# Altium footprint library libreriaPcb.PcbLib: 683 footprints (part 13 of 44)
Each footprint in its own frame and in the unit in brackets; x right, y up, seen from the top. Pads: shape width x height; smd on the part's side, far side on the other; paste and mask are expansions set on the pad; w line width, h text height; cw(c..) or ccw(c..) is an arc to the next point about the centre after c.
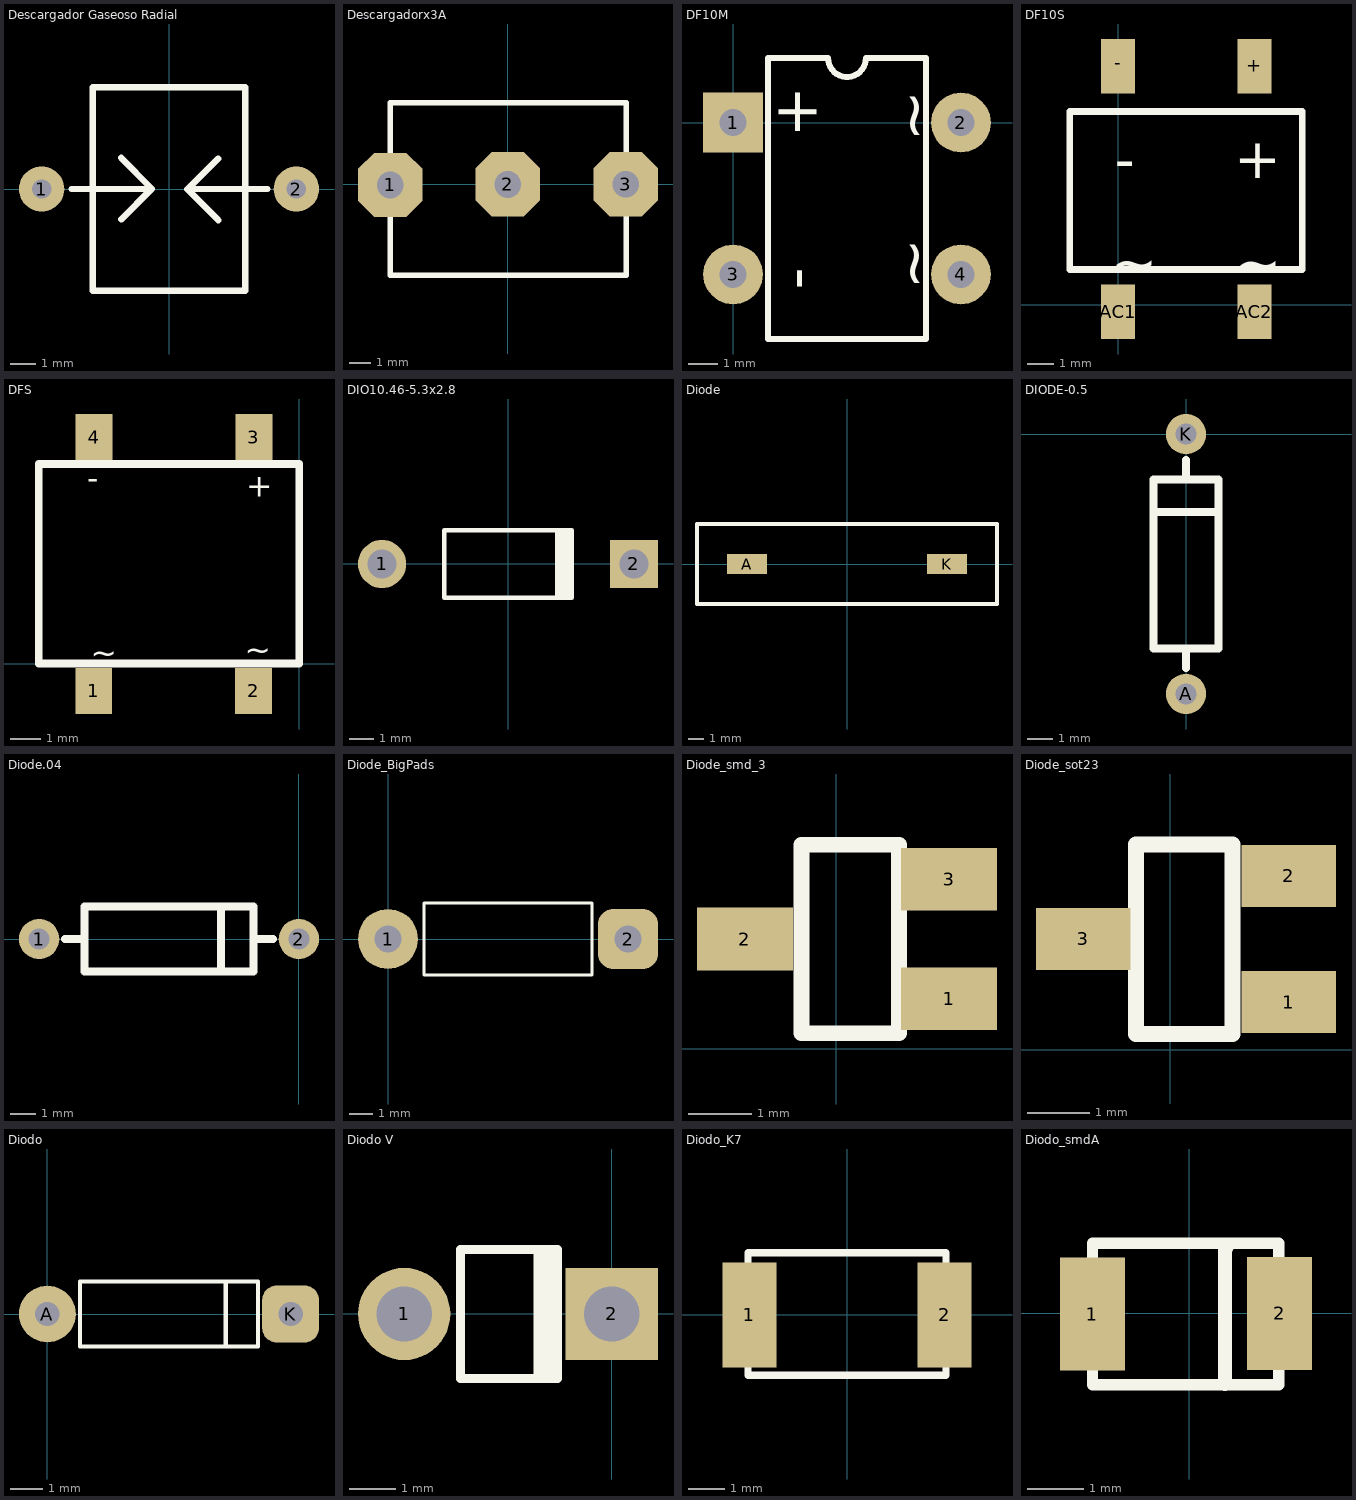
[diagram p12: the footprints below, top view; thin cyan lines are the x and y axes]

## Descargador Gaseoso Radial [mil]
pads (2):
  round 70 / inner round 0 / far side round 70 hole 30 paste+0: 1(-196.85,0) 2(196.85,0)
Top Overlay:
  lines w10: -150,0 -27,0 ; -74,-47 -27,0 ; -74,48 -26.5,0.5 -27,0 ; 76,-48 28.5,-0.5 29,0 ; 76,47 29,0 ; 152,0 29,0 ; -118.11,-157.48 -118.11,157.48 118.11,157.48 118.11,-157.48 -118.11,-157.48
3D body: height 353.09, standoff 39.37, extent -120.11,-160.34 116.11,154

## Descargadorx3A [mm]
pads (3):
  oct 3x3 hole 1.25: 1(-5.475,-0.025) 2(0,0) 3(5.5,0.013)
Top Overlay:
  lines w0.254: -5.475,-4.237 -5.475,3.813 5.525,3.813 5.525,-4.237 -5.475,-4.237
3D body: height 8.2, standoff 0, extent -5.975,-4.285 -4.975,3.912
3D body: height 8.2, standoff 0, extent 5.025,-4.325 6.025,3.873
3D body: height 8.2, standoff 0, extent -0.525,-4.325 0.475,3.873
3D body: height 6, standoff 0, extent 4.508,-0.985 6.5,1.011
3D body: height 8, standoff 0, extent -5.55,-4.235 5.45,3.762
3D body: height 6, standoff 0, extent -6.467,-1.023 -4.475,0.973
3D body: height 6, standoff 0, extent -0.992,-0.998 1,0.998

## DF10M [mm]
pads (4):
  rect 2x2 hole 0.9: 1(0,0)
  round 2 hole 0.9: 2(7.62,0) 3(0,-5.08) 4(7.62,-5.08)
Top Overlay:
  lines w0.2: 1.16,-7.24 1.16,2.16 3.175,2.16 ccw(c3.81,2.16) 4.445,2.16 6.46,2.16 6.46,-7.24 1.16,-7.24
  text "~" at 6.731,-0.635 h1.5
  text "~" at 6.731,-5.588 h1.5
  text "-" at 2.794,-5.588 h1.5
  text "+" at 2.794,-0.508 h1.5

## DF10S [mil]
pads (4):
  rect 50x80 smd: +(200,350) -(0,350) AC1(0,-10) AC2(200,-10)
Top Overlay:
  lines w10: -70.87,283.46 -70.87,52.17 270,52.17 270,283.46 -70,283.46
  text "~" at -10.83,32.48 h60
  text "~" at 171.26,31.5 h60
  text "-" at -4.92,184.06 h60
  text "+" at 170.28,186.02 h60

## DFS [mm]
pads (4):
  rect 1.2x1.5 smd: 1(-6.685,-0.89) 2(-1.485,-0.89) 3(-1.475,7.375) 4(-6.675,7.375)
Top Overlay:
  lines w0.254: -8.475,0 0,0 0,6.496 -8.475,6.496 -8.475,0
  text "~" at -1.775,0.1 h0.75
  text "~" at -6.785,0 h0.75
  text "-" at -6.9,5.675 h0.75
  text "+" at -1.725,5.425 h0.75
3D body: height 1, standoff 0, extent -8.35,0.002 -0.05,6.498

## DIO10.46-5.3x2.8 [mm] "Diode, Axial; Body 5.2 x 2.7 mm (LxDia. max), Lead Dia. 0.86 mm (max)"
height 2.8
pads (2):
  round 2 hole 1.2: 1(-5.23,0)
  rect 2x2 hole 1.2: 2(5.23,0)
Top Overlay:
  rectangle: 1.95,-1.4 2.75,1.4
  lines w0.2: 2.65,-1.4 -2.65,-1.4 -2.65,1.4 2.65,1.4

## Diode [mm]
pads (2):
  rect 2.54x1.27 smd: A(-6.35,0) K(6.35,0)
Top Overlay:
  lines w0.254: -9.525,-2.54 -9.525,0 -9.525,2.54 9.525,2.54 9.525,-2.54 -9.525,-2.54

## DIODE-0.5 [mil]
pads (2):
  round 62 hole 32: A(0,-400) K(0,0)
Top Overlay:
  lines w12: -50,-120 50,-120 ; 0,-360 0,-330 ; 0,-70 0,-40 ; -50,-330 -50,-70 50,-70 50,-330 -50,-330

## Diode.04 [mil]
pads (2):
  round 62 hole 32: 1(-400,0) 2(0,0)
Top Overlay:
  lines w12: -360,0 -330,0 ; -120,-50 -120,50 ; -70,0 -40,0 ; -330,-50 -70,-50 -70,50 -330,50 -330,-50

## Diode_BigPads [mil]
pads (2):
  round 100 / inner round 0 / far side round 100 hole 45 paste+0: 1(0,0)
  rrect50% 100x100 / inner round 0 / far side rrect50% 100x100 hole 45 paste+0: 2(400,0)
Top Overlay:
  lines w5: 60,-60 340,-60 340,60 60,60 60,-60

## Diode_smd_3 [mm]
pads (3):
  rect 1.524x1 smd: 1(1.8,0.8) 2(-1.45,1.75) 3(1.8,2.7)
Top Overlay:
  lines w0.254: -0.55,0.25 -0.55,3.25 1,3.25 1,0.25 -0.55,0.25
3D body: height 1, standoff 0, extent -0.549,0.251 0.999,3.249

## Diode_sot23 [mil]
pads (3):
  rect 60x39.37 smd: 1(75,30) 2(75,110) 3(-55,70)
Top Overlay:
  lines w10: -21.65,9.84 -21.65,129.92 39.37,129.92 39.37,9.84 -21.65,9.84
3D body: height 39.37, standoff 0, extent -21.63,9.86 39.35,127.93

## Diodo [mil]
pads (2):
  round 70 / inner round 0 / far side round 70 hole 30 paste+0: A(0,0)
  rrect50% 70x70 / inner round 0 / far side rrect50% 70x70 hole 30 paste+0: K(300,0)
Top Overlay:
  lines w5: 220,-40 220,40 ; 40,-40 40,40 260,40 260,-40 40,-40

## Diodo V [mm]
pads (2):
  round 2 hole 1.2: 1(-4.5,0)
  rect 2x2 hole 1.2: 2(0,0)
Top Overlay:
  rectangle: -1.7,-1.4 -1.08,1.4
  lines w0.2: -1.18,-1.4 -3.28,-1.4 -3.28,1.4 -1.18,1.4

## Diodo_K7 [mm]
pads (2):
  rect 1.5x2.9 smd: 1(-2.7,0) 2(2.7,0)
Top Overlay:
  lines w0.2: -2.74,-1.67 -2.74,0 -2.74,1.72 2.74,1.72 2.74,-1.67 -2.74,-1.67
3D body: height 2, standoff 0, extent -2.84,-1.77 2.84,1.82

## Diodo_smdA [mm]
pads (2):
  rect 1.15x2 smd: 1(-1.711,-0.01) 2(1.6,0)
Top Overlay:
  lines w0.2: -1.711,-1.26 -1.711,-0.01 -1.711,1.24 1.589,1.24 1.589,-1.26 -1.711,-1.26
  lines w0.254: 0.635,-1.245 0.635,1.168 0.66,1.168
3D body: height 0.72, standoff -0.72, extent -1.803,-0.706 -1.603,0.742
3D body: height 0.72, standoff -0.72, extent 0.663,-0.711 0.963,0.736
3D body: height 0.7, standoff -0.71, extent -1.801,-0.696 1.649,0.721
3D body: height 0.72, standoff -0.72, extent 1.448,-0.711 1.648,0.736